# EAGLE library part DPDT (library bt_electromech)
Dual Position, Dual Throw (DPDT) Switch
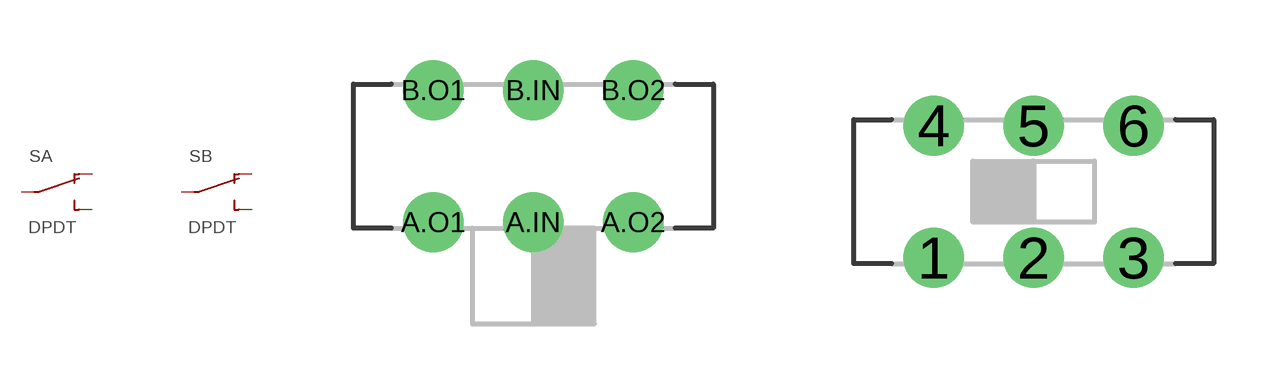
[diagram p3: symbol with the pads of DPDT_JS202011AQN; footprints DPDT_JS202011AQN, DPDT_JS202011CQN]

Designator prefix S; gates A=SPDT B=SPDT

## DPDT_JS202011AQN  [DPDT_JS202011AQN]
A.IN  A:P  pas
A.O1  A:O1  pas
A.O2  A:O2  pas
B.IN  B:P  pas
B.O1  B:O1  pas
B.O2  B:O2  pas

## DPDT_JS202011CQN  [DPDT_JS202011CQN]
1  A:O1  pas
2  A:P  pas
3  A:O2  pas
4  B:O1  pas
5  B:P  pas
6  B:O2  pas

## DPDT_JS02011SCQN  [DPDT_JS202011SCQN]
Pads as for DPDT_JS202011CQN

## DPDT_100DP1T2B4M6QE  [100DP1T2B4M6QE]
Pads as for DPDT_JS202011CQN

## DPDT_MSS-22-D18  [DPDT_MSS-22D18]
Pads as for DPDT_JS202011AQN

## Footprint DPDT_JS202011AQN (pad centres in mm)
C&K Switch P/N JS202011AQN
drill 1: A.IN 0,-1.65; A.O1 -2.5,-1.65; A.O2 2.5,-1.65; B.IN 0,1.65; B.O1 -2.5,1.65; B.O2 2.5,1.65

## Footprint DPDT_JS202011CQN (pad centres in mm)
C&K JS202011CQN DPDT 3.6mm x 9mm slide switch
drill 1: 1 -2.5,-1.65; 2 0,-1.651; 3 2.5,-1.65; 4 -2.5,1.65; 5 0,1.651; 6 2.5,1.65

## Footprint DPDT_JS202011SCQN (pad centres in mm)
smd 1.2 x 2.5: 1 -2.5,-2.75; 2 0,-2.75; 3 2.5,-2.75; 4 -2.5,2.75; 5 0,2.75; 6 2.5,2.75

## Footprint 100DP1T2B4M6QE (pad centres in mm)
E-Switch DPDT on-on, board mount, right angle PN: 100DP1T2B4M6QE datasheet.pdf <http://spec_sheets.e-switch.com/specs/T121043.pdf>
drill 1.1: 1 -4.699,-12.7; 2 0,-12.7; 3 4.699,-12.7; 4 -4.699,-16.51; 5 0,-16.51; 6 4.699,-16.51; G1 -2.54,0; G2 2.54,0

## Footprint DPDT_MSS-22D18 (pad centres in mm)
MSS-22D18 DPDT Switch
drill 0.8: A.IN 0,-1.6; A.O1 -2.5,-1.6; A.O2 2.5,-1.6; B.IN 0,1.6; B.O1 -2.5,1.6; B.O2 2.5,1.6